# Altium schematic symbol library LT3024EDEPBF.SchLib: 2 symbols
Pins are listed as number, name and electrical type; pins without a type are passive.

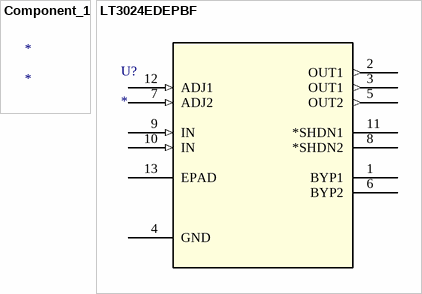
[diagram p0: symbols Component_1 to LT3024EDEPBF]

## Component_1
designator *

## LT3024EDEPBF
designator U?
No Description Available; Mfr_Name: Analog Devices Inc; RefDes: RefDes; Type: Type
footprint DFN-12_DE_LIT
pins: 1 BYP1, 2 OUT1 (out), 3 OUT1 (out), 4 GND (power), 5 OUT2 (out), 6 BYP2, 7 ADJ2 (in), 8 *SHDN2, 9 IN (in), 10 IN (in), 11 *SHDN1, 12 ADJ1 (in), 13 EPAD